# Altium footprint library SI4432-LCC48.PcbLib: 2 footprints
Each footprint in its own frame and in the unit in brackets; x right, y up, seen from the top. Pads: shape width x height; smd on the part's side, far side on the other; paste and mask are expansions set on the pad; w line width, h text height; cw(c..) or ccw(c..) is an arc to the next point about the centre after c.
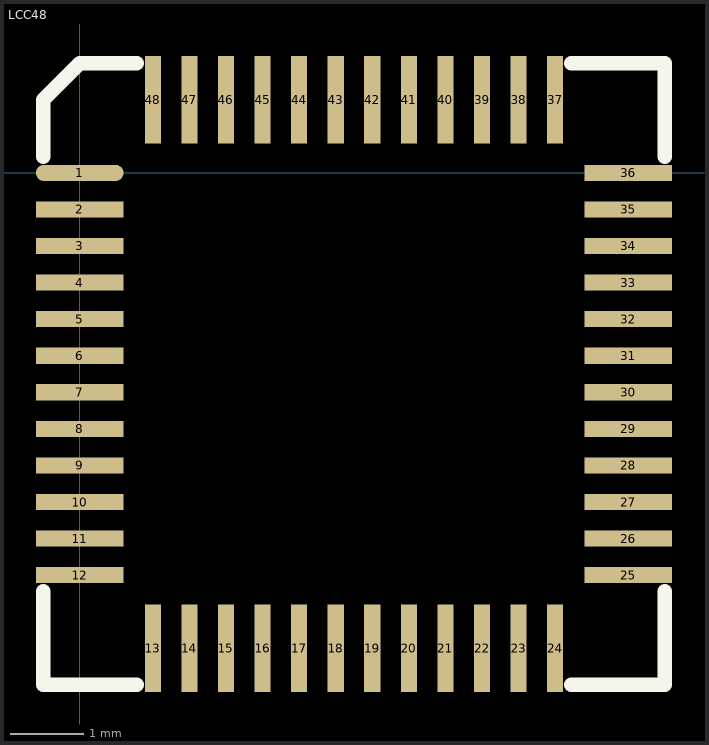
[diagram p0: the footprints below, top view; thin cyan lines are the x and y axes]

## LCC48 [mm]
pads (48):
  oval 1.2x0.22 smd: 1(0,0)
  rect 1.2x0.22 smd: 2(0,-0.5) 3(0,-1) 4(0,-1.5) 5(0,-2) 6(0,-2.5) 7(0,-3) 8(0,-3.5) 9(0,-4) 10(0,-4.5) 11(0,-5) 12(0,-5.5) 25(7.5,-5.5) 26(7.5,-5) 27(7.5,-4.5) 28(7.5,-4) 29(7.5,-3.5) 30(7.5,-3) 31(7.5,-2.5) 32(7.5,-2) 33(7.5,-1.5) 34(7.5,-1) 35(7.5,-0.5) 36(7.5,0)
  rect 0.22x1.2 smd: 13(1,-6.5) 14(1.5,-6.5) 15(2,-6.5) 16(2.5,-6.5) 17(3,-6.5) 18(3.5,-6.5) 19(4,-6.5) 20(4.5,-6.5) 21(5,-6.5) 22(5.5,-6.5) 23(6,-6.5) 24(6.5,-6.5) 37(6.5,1) 38(6,1) 39(5.5,1) 40(5,1) 41(4.5,1) 42(4,1) 43(3.5,1) 44(3,1) 45(2.5,1) 46(2,1) 47(1.5,1) 48(1,1)
Top Overlay:
  lines w0.2: -0.5,-5.72 -0.5,-7 0.78,-7 ; -0.5,0.22 -0.5,1 0,1.5 0.78,1.5 ; 6.72,-7 8,-7 8,-5.72 ; 6.72,1.5 8,1.5 8,0.22

## PCBComponent_1 [mm]